# EAGLE library part TPS3808G* (library NewSDR)
Low Quiescent Current, Programmable-Delay Supervisory Circui
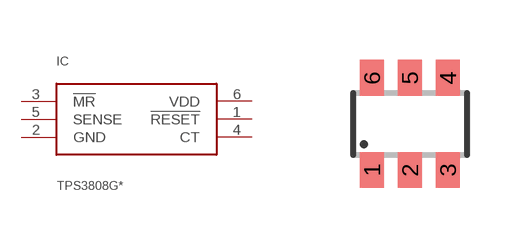
[diagram p177: symbol with the pads of SOT23-6; footprint SOT23-6]

Designator prefix IC

## TPS3808G01DBV, TPS3808G09DBV, TPS3808G12DBV, TPS3808G125DBV, TPS3808G15DBV, TPS3808G18DBV, TPS3808G19DBV, TPS3808G25DBV, TPS3808G30DBV, TPS3808G33DBV, TPS3808G50DBV  [SOT23-6]
1  !RESET
2  GND
3  !MR
4  CT
5  SENSE
6  VDD

## Footprint SOT23-6 (pad centres in mm)
Small Outline Transistor 6 lead
smd 0.6 x 0.9: 1 -0.95,-1.15; 2 0,-1.15; 3 0.95,-1.15; 4 0.95,1.15; 5 0,1.15; 6 -0.95,1.15